# EAGLE library part M10_1.27 (library SKAARHOJ)
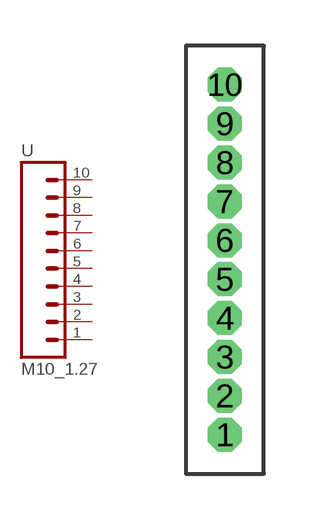
[diagram p61: symbol with the pads of M10X1; footprint M10X1]

Designator prefix -

## M10_1.27  [M10X1]
1  1  pas
2  2  pas
3  3  pas
4  4  pas
5  5  pas
6  6  pas
7  7  pas
8  8  pas
9  9  pas
10  10  pas

## Footprint M10X1 (pad centres in mm)
drill 0.6 pad 1.016 octagon: 1 0,0; 2 0,1.27; 3 0,2.54; 4 0,3.81; 5 0,5.08; 6 0,6.35; 7 0,7.62; 8 0,8.89; 9 0,10.16; 10 0,11.43